# Altium footprint library external.PcbLib: 3 footprints
Each footprint in its own frame and in the unit in brackets; x right, y up, seen from the top. Pads: shape width x height; smd on the part's side, far side on the other; paste and mask are expansions set on the pad; w line width, h text height; cw(c..) or ccw(c..) is an arc to the next point about the centre after c.
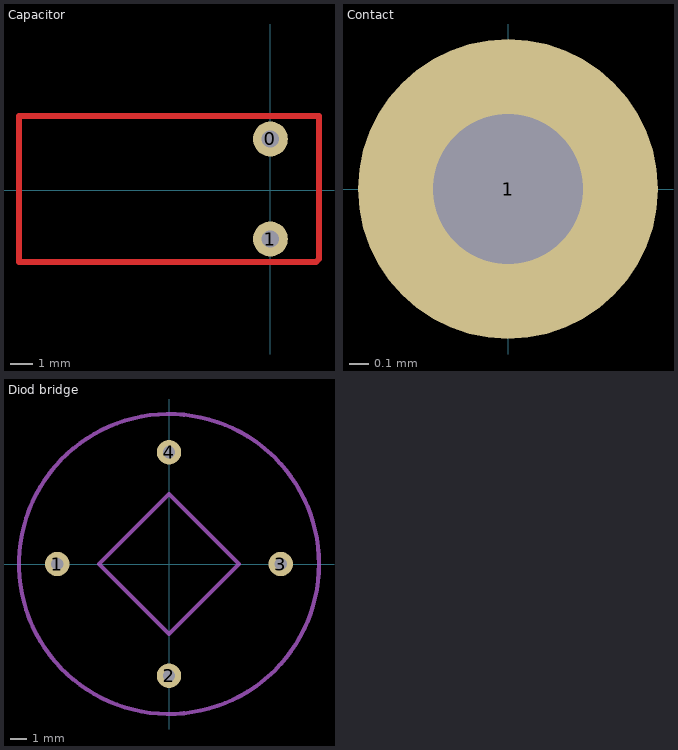
[diagram p0: the footprints below, top view; thin cyan lines are the x and y axes]

## Capacitor [mil]
pads (2):
  round 60 hole 30: 0(0,88.58) 1(0,-83.66)
Top Layer:
  lines w10: -177.17,127.95 -433.07,127.95 -433.07,-123.03 -177.17,-123.03 78.74,-123.03 83.66,-118.11 83.66,127.95 0,127.95 ; -177.17,127.95 -177.17,127.95 ; -177.17,127.95 0,127.95 ; 0,127.95 0,127.95

## Contact [mil]
pads (1):
  round 60 hole 30: 1(0,0)

## Diod bridge [mil]
pads (4):
  round 60 hole 30: 1(-275.59,0) 2(0,-275.59) 3(275.59,0) 4(0,275.59)
Mechanical 1:
  circle w10: c0,0 r369.91
  lines w10: -172.24,0 0,172.24 172.24,0 0,-172.24 -172.24,0